# EAGLE library part MA08-1 (library tile)
PIN HEADER
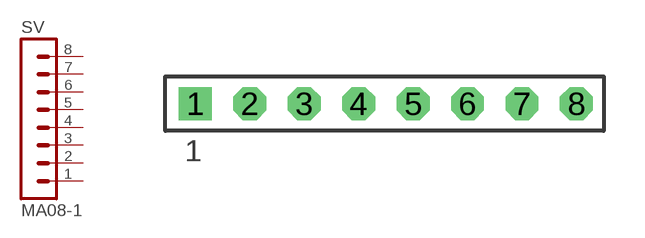
[diagram p1: symbol with the pads of MA08-1; footprint MA08-1]

Designator prefix SV

## MA08-1  [MA08-1]
1  1  pas
2  2  pas
3  3  pas
4  4  pas
5  5  pas
6  6  pas
7  7  pas
8  8  pas

## Footprint MA08-1 (pad centres in mm)
PIN HEADER
drill 0.7 square: 1 -7,0
drill 0.7 octagon: 2 -5,0; 3 -3,0; 4 -1,0; 5 1,0; 6 3,0; 7 5,0; 8 7,0